# Altium schematic symbol library WT931.Schlib: 1 symbol
Pins are listed as number, name and electrical type; pins without a type are passive.

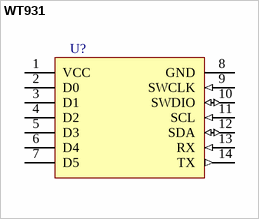
[diagram p0: symbol WT931]

## WT931
designator U?
AHRS IMU sensor. A sensor measures 3-axis angle, / angular velocity, acceleration, magnetic field.
pins: 1 VCC (power), 2 D0, 3 D1, 4 D2, 5 D3, 6 D4, 7 D5, 8 GND (power), 9 SWCLK (in), 10 SWDIO (io), 11 SCL (in), 12 SDA (io), 13 RX (in), 14 TX (out)